# EAGLE library part ATTINY861V-10MU (library Melodica)
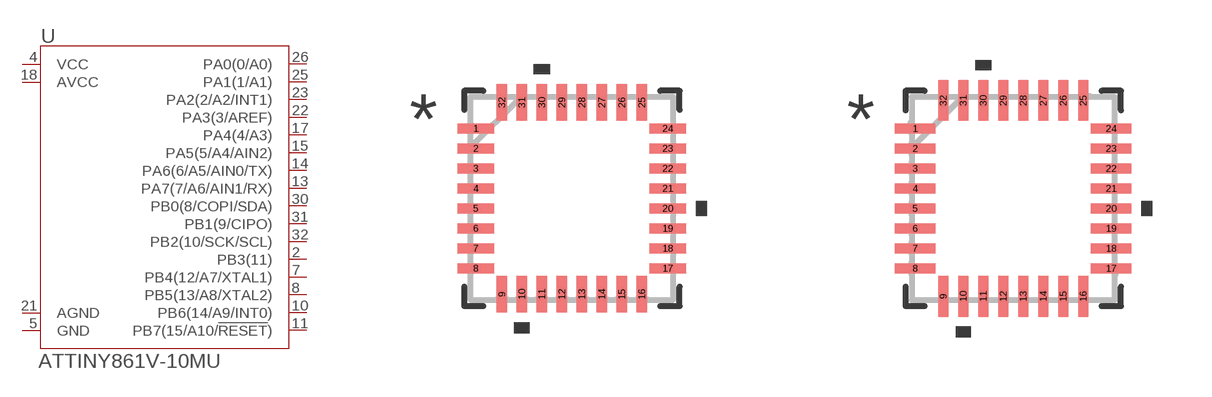
[diagram p0: symbol with the pads of 32M1-A_ATM; footprints 32M1-A_ATM, 32M1-A_ATM-M]

Designator prefix U

## ATTINY861V-10MU (COPYRIGHT: Copyright (C) 2021 Ultra Librarian. All rights reserved.; DIGI-KEY_PART_NUMBER_1: ATTINY861V-10MU-ND; DIGI-KEY_PART_NUMBER_2: 2156-ATTINY861V-10MU-ND; MANUFACTURER_PART_NUMBER: ATTINY861V-10MU; MFR_NAME: Microchip)  [32M1-A_ATM]
2  PB3(11)
4  VCC  pwr
5  GND  pwr
7  PB4(12/A7/XTAL1)
8  PB5(13/A8/XTAL2)
10  PB6(14/A9/INT0)
11  PB7(15/A10/!RESET!)
13  PA7(7/A6/AIN1/RX)
14  PA6(6/A5/AIN0/TX)
15  PA5(5/A4/AIN2)
17  PA4(4/A3)
18  AVCC  pwr
21  AGND  pwr
22  PA3(3/AREF)
23  PA2(2/A2/INT1)
25  PA1(1/A1)
26  PA0(0/A0)
30  PB0(8/COPI/SDA)
31  PB1(9/CIPO)
32  PB2(10/SCK/SCL)

## ATTINY861V-10MU32M1-A_ATM-M (COPYRIGHT: Copyright (C) 2021 Ultra Librarian. All rights reserved.; DIGI-KEY_PART_NUMBER_1: ATTINY861V-10MU-ND; DIGI-KEY_PART_NUMBER_2: 2156-ATTINY861V-10MU-ND; MANUFACTURER_PART_NUMBER: ATTINY861V-10MU; MFR_NAME: Microchip)  [32M1-A_ATM-M]
Pads as for 32M1-A_ATM

## ATTINY861V-10MU32M1-A_ATM-L (COPYRIGHT: Copyright (C) 2021 Ultra Librarian. All rights reserved.; DIGI-KEY_PART_NUMBER_1: ATTINY861V-10MU-ND; DIGI-KEY_PART_NUMBER_2: 2156-ATTINY861V-10MU-ND; MANUFACTURER_PART_NUMBER: ATTINY861V-10MU; MFR_NAME: Microchip)  [32M1-A_ATM-L]
Pads as for 32M1-A_ATM

## Footprint 32M1-A_ATM (pad centres in mm)
smd 0.914 x 0.254: 1 -2.4,1.75; 2 -2.4,1.25; 3 -2.4,0.75; 4 -2.4,0.25; 5 -2.4,-0.25; 6 -2.4,-0.75; 7 -2.4,-1.25; 8 -2.4,-1.75; 17 2.4,-1.75; 18 2.4,-1.25; 19 2.4,-0.75; 20 2.4,-0.25; 21 2.4,0.25; 22 2.4,0.75; 23 2.4,1.25; 24 2.4,1.75
smd 0.254 x 0.914: 9 -1.75,-2.4; 10 -1.25,-2.4; 11 -0.75,-2.4; 12 -0.25,-2.4; 13 0.25,-2.4; 14 0.75,-2.4; 15 1.25,-2.4; 16 1.75,-2.4; 25 1.75,2.4; 26 1.25,2.4; 27 0.75,2.4; 28 0.25,2.4; 29 -0.25,2.4; 30 -0.75,2.4; 31 -1.25,2.4; 32 -1.75,2.4

## Footprint 32M1-A_ATM-M (pad centres in mm)
smd 1.016 x 0.254: 1 -2.451,1.75; 2 -2.451,1.25; 3 -2.451,0.75; 4 -2.451,0.25; 5 -2.451,-0.25; 6 -2.451,-0.75; 7 -2.451,-1.25; 8 -2.451,-1.75; 17 2.451,-1.75; 18 2.451,-1.25; 19 2.451,-0.75; 20 2.451,-0.25; 21 2.451,0.25; 22 2.451,0.75; 23 2.451,1.25; 24 2.451,1.75
smd 0.254 x 1.016: 9 -1.75,-2.451; 10 -1.25,-2.451; 11 -0.75,-2.451; 12 -0.25,-2.451; 13 0.25,-2.451; 14 0.75,-2.451; 15 1.25,-2.451; 16 1.75,-2.451; 25 1.75,2.451; 26 1.25,2.451; 27 0.75,2.451; 28 0.25,2.451; 29 -0.25,2.451; 30 -0.75,2.451; 31 -1.25,2.451; 32 -1.75,2.451

## Footprint 32M1-A_ATM-L (pad centres in mm)
smd 0.813 x 0.254: 1 -2.349,1.75; 2 -2.349,1.25; 3 -2.349,0.75; 4 -2.349,0.25; 5 -2.349,-0.25; 6 -2.349,-0.75; 7 -2.349,-1.25; 8 -2.349,-1.75; 17 2.349,-1.75; 18 2.349,-1.25; 19 2.349,-0.75; 20 2.349,-0.25; 21 2.349,0.25; 22 2.349,0.75; 23 2.349,1.25; 24 2.349,1.75
smd 0.254 x 0.813: 9 -1.75,-2.349; 10 -1.25,-2.349; 11 -0.75,-2.349; 12 -0.25,-2.349; 13 0.25,-2.349; 14 0.75,-2.349; 15 1.25,-2.349; 16 1.75,-2.349; 25 1.75,2.349; 26 1.25,2.349; 27 0.75,2.349; 28 0.25,2.349; 29 -0.25,2.349; 30 -0.75,2.349; 31 -1.25,2.349; 32 -1.75,2.349